# Altium schematic symbol library Sch_Degson.SchLib: 1 symbol
Pins are listed as number, name and electrical type; pins without a type are passive.

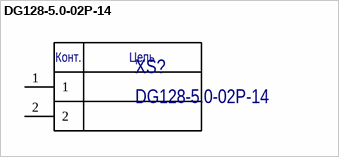
[diagram p0: symbol DG128-5.0-02P-14]

## DG128-5.0-02P-14
designator XS?
PCB terminal blocks, Screw connection with tension sleeve; Manufacturer: DEGSON Electronics; Part Number: DG128-5.0-02P-14
footprint DG128-5.0-02P (PCB terminal blocks, Screw connection with tension sleeve)
pins: 1, 2
text: Конт.; Цепь